# Altium schematic symbol library Sensors.SchLib: 2 symbols
Pins are listed as number, name and electrical type; pins without a type are passive.

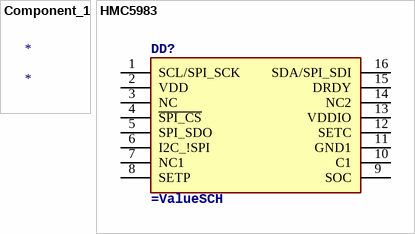
[diagram p0: symbols Component_1 to HMC5983]

## Component_1
designator *

## HMC5983
designator DD?
IC COMPASS 3 AXIS 16-LCC
pins: 1 SCL/SPI_SCK, 2 VDD (power), 3 NC, 4 ~{SPI_CS}, 5 SPI_SDO, 6 I2C_!SPI, 7 NC1, 8 SETP, 9 SOC, 10 C1, 11 GND1, 12 SETC, 13 VDDIO (power), 14 NC2, 15 DRDY, 16 SDA/SPI_SDI